# Altium schematic symbol library Microcontrollers.SchLib: 13 symbols
Pins are listed as number, name and electrical type; pins without a type are passive.

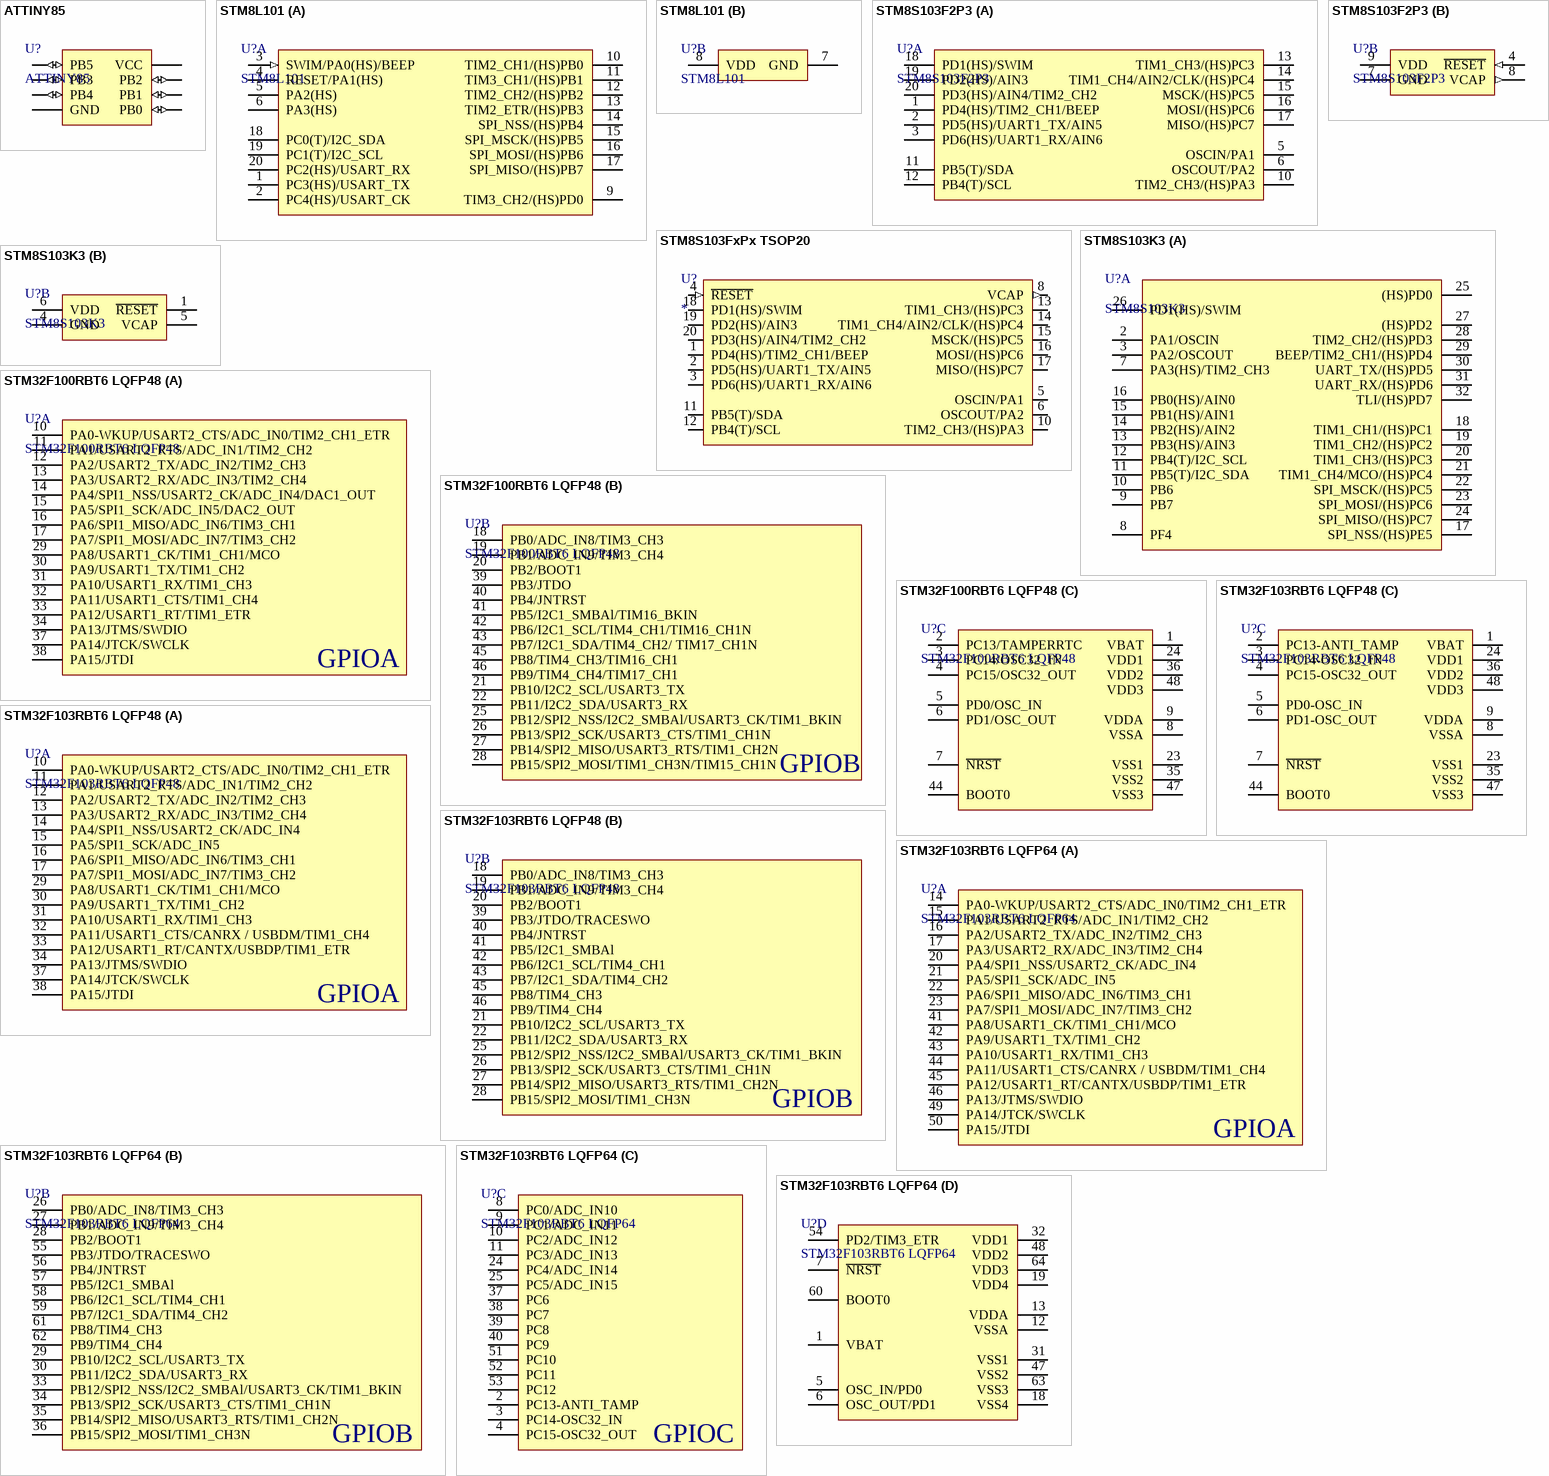
[diagram p0: symbols ATTINY85 to STM32F103RBT6 LQFP64]

## ATTINY85
designator U?
footprint DIP08
pins: 1 PB5 (io), 2 PB3 (io), 3 PB4 (io), 4 GND (power), 5 PB0 (io), 6 PB1 (io), 7 PB2 (io), 8 VCC (power)

## STM8L101
designator U?
footprint TSOP20 (TSOP, 20-Leads, Body 6,50x4,40mm, Pitch 0,65mm, IPC Medium Density)
part A pins: 1 PC3(HS)/USART_TX, 2 PC4(HS)/USART_CK, 3 SWIM/PA0(HS)/BEEP (in), 4 RESET/PA1(HS), 5 PA2(HS), 6 PA3(HS), 9 TIM3_CH2/(HS)PD0, 10 TIM2_CH1/(HS)PB0, 11 TIM3_CH1/(HS)PB1, 12 TIM2_CH2/(HS)PB2, 13 TIM2_ETR/(HS)PB3, 14 SPI_NSS/(HS)PB4, 15 SPI_MSCK/(HS)PB5, 16 SPI_MOSI/(HS)PB6, 17 SPI_MISO/(HS)PB7, 18 PC0(T)/I2C_SDA, 19 PC1(T)/I2C_SCL, 20 PC2(HS)/USART_RX
part B pins: 7 GND (power), 8 VDD (power)

## STM8S103F2P3
designator U?
Supplier 1: Digi-Key; Supplier Part Number 1: 497-11576-ND
footprint TSOP20 (TSOP, 20-Leads, Body 6,50x4,40mm, Pitch 0,65mm, IPC Medium Density)
footprint SOIC-20 (SOIC, 20-Leads, Body 12,80x7,50mm, Pitch 1,27mm, IPC Medium Density)
footprint QFN20N (QFN, 20-Leads, Body 4,00x4,00mm, Pitch 0,50mm, IPC Medium Density)
part A pins: 1 PD4(HS)/TIM2_CH1/BEEP, 2 PD5(HS)/UART1_TX/AIN5, 3 PD6(HS)/UART1_RX/AIN6, 5 OSCIN/PA1, 6 OSCOUT/PA2, 10 TIM2_CH3/(HS)PA3, 11 PB5(T)/SDA (oc), 12 PB4(T)/SCL (oc), 13 TIM1_CH3/(HS)PC3, 14 TIM1_CH4/AIN2/CLK/(HS)PC4, 15 MSCK/(HS)PC5, 16 MOSI/(HS)PC6, 17 MISO/(HS)PC7, 18 PD1(HS)/SWIM, 19 PD2(HS)/AIN3, 20 PD3(HS)/AIN4/TIM2_CH2
part B pins: 4 ~{RESET} (in), 7 GND (power), 8 VCAP (out), 9 VDD (power)

## STM8S103FxPx TSOP20
designator U?
STM8S103FxPx TSOP20
footprint TSOP20 (TSOP, 20-Leads, Body 6,50x4,40mm, Pitch 0,65mm, IPC Medium Density)
footprint SOIC-20 (SOIC, 20-Leads, Body 12,80x7,50mm, Pitch 1,27mm, IPC Medium Density)
footprint QFN20N (QFN, 20-Leads, Body 4,00x4,00mm, Pitch 0,50mm, IPC Medium Density)
pins: 1 PD4(HS)/TIM2_CH1/BEEP, 2 PD5(HS)/UART1_TX/AIN5, 3 PD6(HS)/UART1_RX/AIN6, 4 ~{RESET} (in), 5 OSCIN/PA1, 6 OSCOUT/PA2, 7 GND (power) hidden to GND, 8 VCAP (out), 9 VCC hidden to VCC, 10 TIM2_CH3/(HS)PA3, 11 PB5(T)/SDA (oc), 12 PB4(T)/SCL (oc), 13 TIM1_CH3/(HS)PC3, 14 TIM1_CH4/AIN2/CLK/(HS)PC4, 15 MSCK/(HS)PC5, 16 MOSI/(HS)PC6, 17 MISO/(HS)PC7, 18 PD1(HS)/SWIM, 19 PD2(HS)/AIN3, 20 PD3(HS)/AIN4/TIM2_CH2

## STM8S103K3
designator U?
16 MHz STM8S 8-bit MCU, up to 8 Kbytes Flash, data  EEPROM,10-bit ADC, 3 timers, UART, SPI, I²C
footprint LQFP32 (TQFP, 32-Leads, Body 7,00x7,00mm, Pitch 0,80mm, IPC Medium Density)
footprint UFQFPN32 (QFN, 32-Leads, Body 5,00x5,00mm, Pitch 0,50mm, Thermal Pad 3,50x3,50mm, IPC Medium Density)
part A pins: 2 PA1/OSCIN, 3 PA2/OSCOUT, 7 PA3(HS)/TIM2_CH3, 8 PF4, 9 PB7, 10 PB6, 11 PB5(T)/I2C_SDA, 12 PB4(T)/I2C_SCL, 13 PB3(HS)/AIN3, 14 PB2(HS)/AIN2, 15 PB1(HS)/AIN1, 16 PB0(HS)/AIN0, 17 SPI_NSS/(HS)PE5, 18 TIM1_CH1/(HS)PC1, 19 TIM1_CH2/(HS)PC2, 20 TIM1_CH3/(HS)PC3, 21 TIM1_CH4/MCO/(HS)PC4, 22 SPI_MSCK/(HS)PC5, 23 SPI_MOSI/(HS)PC6, 24 SPI_MISO/(HS)PC7, 25 (HS)PD0, 26 PD1(HS)/SWIM, 27 (HS)PD2, 28 TIM2_CH2/(HS)PD3, 29 BEEP/TIM2_CH1/(HS)PD4, 30 UART_TX/(HS)PD5, 31 UART_RX/(HS)PD6, 32 TLI/(HS)PD7
part B pins: 1 ~{RESET}, 4 GND, 5 VCAP, 6 VDD

## STM32F100RBT6 LQFP48
designator U?
footprint LQFP48
part A pins: 10 PA0-WKUP/USART2_CTS/ADC_IN0/TIM2_CH1_ETR, 11 PA1/USART2_RTS/ADC_IN1/TIM2_CH2, 12 PA2/USART2_TX/ADC_IN2/TIM2_CH3, 13 PA3/USART2_RX/ADC_IN3/TIM2_CH4, 14 PA4/SPI1_NSS/USART2_CK/ADC_IN4/DAC1_OUT, 15 PA5/SPI1_SCK/ADC_IN5/DAC2_OUT, 16 PA6/SPI1_MISO/ADC_IN6/TIM3_CH1, 17 PA7/SPI1_MOSI/ADC_IN7/TIM3_CH2, 29 PA8/USART1_CK/TIM1_CH1/MCO, 30 PA9/USART1_TX/TIM1_CH2, 31 PA10/USART1_RX/TIM1_CH3, 32 PA11/USART1_CTS/TIM1_CH4, 33 PA12/USART1_RT/TIM1_ETR, 34 PA13/JTMS/SWDIO, 37 PA14/JTCK/SWCLK, 38 PA15/JTDI
part B pins: 18 PB0/ADC_IN8/TIM3_CH3, 19 PB1/ADC_IN9/TIM3_CH4, 20 PB2/BOOT1, 21 PB10/I2C2_SCL/USART3_TX, 22 PB11/I2C2_SDA/USART3_RX, 25 PB12/SPI2_NSS/I2C2_SMBAl/USART3_CK/TIM1_BKIN, 26 PB13/SPI2_SCK/USART3_CTS/TIM1_CH1N, 27 PB14/SPI2_MISO/USART3_RTS/TIM1_CH2N, 28 PB15/SPI2_MOSI/TIM1_CH3N/TIM15_CH1N, 39 PB3/JTDO, 40 PB4/JNTRST, 41 PB5/I2C1_SMBAl/TIM16_BKIN, 42 PB6/I2C1_SCL/TIM4_CH1/TIM16_CH1N, 43 PB7/I2C1_SDA/TIM4_CH2/ TIM17_CH1N, 45 PB8/TIM4_CH3/TIM16_CH1, 46 PB9/TIM4_CH4/TIM17_CH1
part C pins: 1 VBAT, 2 PC13/TAMPERRTC, 3 PC14/OSC32_IN, 4 PC15/OSC32_OUT, 5 PD0/OSC_IN, 6 PD1/OSC_OUT, 7 ~{NRST}, 8 VSSA (power), 9 VDDA (power), 23 VSS1 (power), 24 VDD1 (power), 35 VSS2 (power), 36 VDD2 (power), 44 BOOT0, 47 VSS3 (power), 48 VDD3 (power)
part A text: GPIOA
part B text: GPIOB

## STM32F103RBT6 LQFP48
designator U?
footprint LQFP48
part A pins: 10 PA0-WKUP/USART2_CTS/ADC_IN0/TIM2_CH1_ETR, 11 PA1/USART2_RTS/ADC_IN1/TIM2_CH2, 12 PA2/USART2_TX/ADC_IN2/TIM2_CH3, 13 PA3/USART2_RX/ADC_IN3/TIM2_CH4, 14 PA4/SPI1_NSS/USART2_CK/ADC_IN4, 15 PA5/SPI1_SCK/ADC_IN5, 16 PA6/SPI1_MISO/ADC_IN6/TIM3_CH1, 17 PA7/SPI1_MOSI/ADC_IN7/TIM3_CH2, 29 PA8/USART1_CK/TIM1_CH1/MCO, 30 PA9/USART1_TX/TIM1_CH2, 31 PA10/USART1_RX/TIM1_CH3, 32 PA11/USART1_CTS/CANRX / USBDM/TIM1_CH4, 33 PA12/USART1_RT/CANTX/USBDP/TIM1_ETR, 34 PA13/JTMS/SWDIO, 37 PA14/JTCK/SWCLK, 38 PA15/JTDI
part B pins: 18 PB0/ADC_IN8/TIM3_CH3, 19 PB1/ADC_IN9/TIM3_CH4, 20 PB2/BOOT1, 21 PB10/I2C2_SCL/USART3_TX, 22 PB11/I2C2_SDA/USART3_RX, 25 PB12/SPI2_NSS/I2C2_SMBAl/USART3_CK/TIM1_BKIN, 26 PB13/SPI2_SCK/USART3_CTS/TIM1_CH1N, 27 PB14/SPI2_MISO/USART3_RTS/TIM1_CH2N, 28 PB15/SPI2_MOSI/TIM1_CH3N, 39 PB3/JTDO/TRACESWO, 40 PB4/JNTRST, 41 PB5/I2C1_SMBAl, 42 PB6/I2C1_SCL/TIM4_CH1, 43 PB7/I2C1_SDA/TIM4_CH2, 45 PB8/TIM4_CH3, 46 PB9/TIM4_CH4
part C pins: 1 VBAT, 2 PC13-ANTI_TAMP, 3 PC14-OSC32_IN, 4 PC15-OSC32_OUT, 5 PD0-OSC_IN, 6 PD1-OSC_OUT, 7 ~{NRST}, 8 VSSA (power), 9 VDDA (power), 23 VSS1 (power), 24 VDD1 (power), 35 VSS2 (power), 36 VDD2 (power), 44 BOOT0, 47 VSS3 (power), 48 VDD3 (power)
part A text: GPIOA
part B text: GPIOB

## STM32F103RBT6 LQFP64
designator U?
footprint LQFP64 (Thin QFP, 64-Leads, Body 10x10mm, Pitch 0.5mm, IPC Low Density)
part A pins: 14 PA0-WKUP/USART2_CTS/ADC_IN0/TIM2_CH1_ETR, 15 PA1/USART2_RTS/ADC_IN1/TIM2_CH2, 16 PA2/USART2_TX/ADC_IN2/TIM2_CH3, 17 PA3/USART2_RX/ADC_IN3/TIM2_CH4, 20 PA4/SPI1_NSS/USART2_CK/ADC_IN4, 21 PA5/SPI1_SCK/ADC_IN5, 22 PA6/SPI1_MISO/ADC_IN6/TIM3_CH1, 23 PA7/SPI1_MOSI/ADC_IN7/TIM3_CH2, 41 PA8/USART1_CK/TIM1_CH1/MCO, 42 PA9/USART1_TX/TIM1_CH2, 43 PA10/USART1_RX/TIM1_CH3, 44 PA11/USART1_CTS/CANRX / USBDM/TIM1_CH4, 45 PA12/USART1_RT/CANTX/USBDP/TIM1_ETR, 46 PA13/JTMS/SWDIO, 49 PA14/JTCK/SWCLK, 50 PA15/JTDI
part B pins: 26 PB0/ADC_IN8/TIM3_CH3, 27 PB1/ADC_IN9/TIM3_CH4, 28 PB2/BOOT1, 29 PB10/I2C2_SCL/USART3_TX, 30 PB11/I2C2_SDA/USART3_RX, 33 PB12/SPI2_NSS/I2C2_SMBAl/USART3_CK/TIM1_BKIN, 34 PB13/SPI2_SCK/USART3_CTS/TIM1_CH1N, 35 PB14/SPI2_MISO/USART3_RTS/TIM1_CH2N, 36 PB15/SPI2_MOSI/TIM1_CH3N, 55 PB3/JTDO/TRACESWO, 56 PB4/JNTRST, 57 PB5/I2C1_SMBAl, 58 PB6/I2C1_SCL/TIM4_CH1, 59 PB7/I2C1_SDA/TIM4_CH2, 61 PB8/TIM4_CH3, 62 PB9/TIM4_CH4
part C pins: 2 PC13-ANTI_TAMP, 3 PC14-OSC32_IN, 4 PC15-OSC32_OUT, 8 PC0/ADC_IN10, 9 PC1/ADC_IN11, 10 PC2/ADC_IN12, 11 PC3/ADC_IN13, 24 PC4/ADC_IN14, 25 PC5/ADC_IN15, 37 PC6, 38 PC7, 39 PC8, 40 PC9, 51 PC10, 52 PC11, 53 PC12
part D pins: 1 VBAT, 5 OSC_IN/PD0, 6 OSC_OUT/PD1, 7 ~{NRST}, 12 VSSA (power), 13 VDDA (power), 18 VSS4 (power), 19 VDD4 (power), 31 VSS1 (power), 32 VDD1 (power), 47 VSS2 (power), 48 VDD2 (power), 54 PD2/TIM3_ETR, 60 BOOT0, 63 VSS3 (power), 64 VDD3 (power)
part A text: GPIOA
part B text: GPIOB
part C text: GPIOC

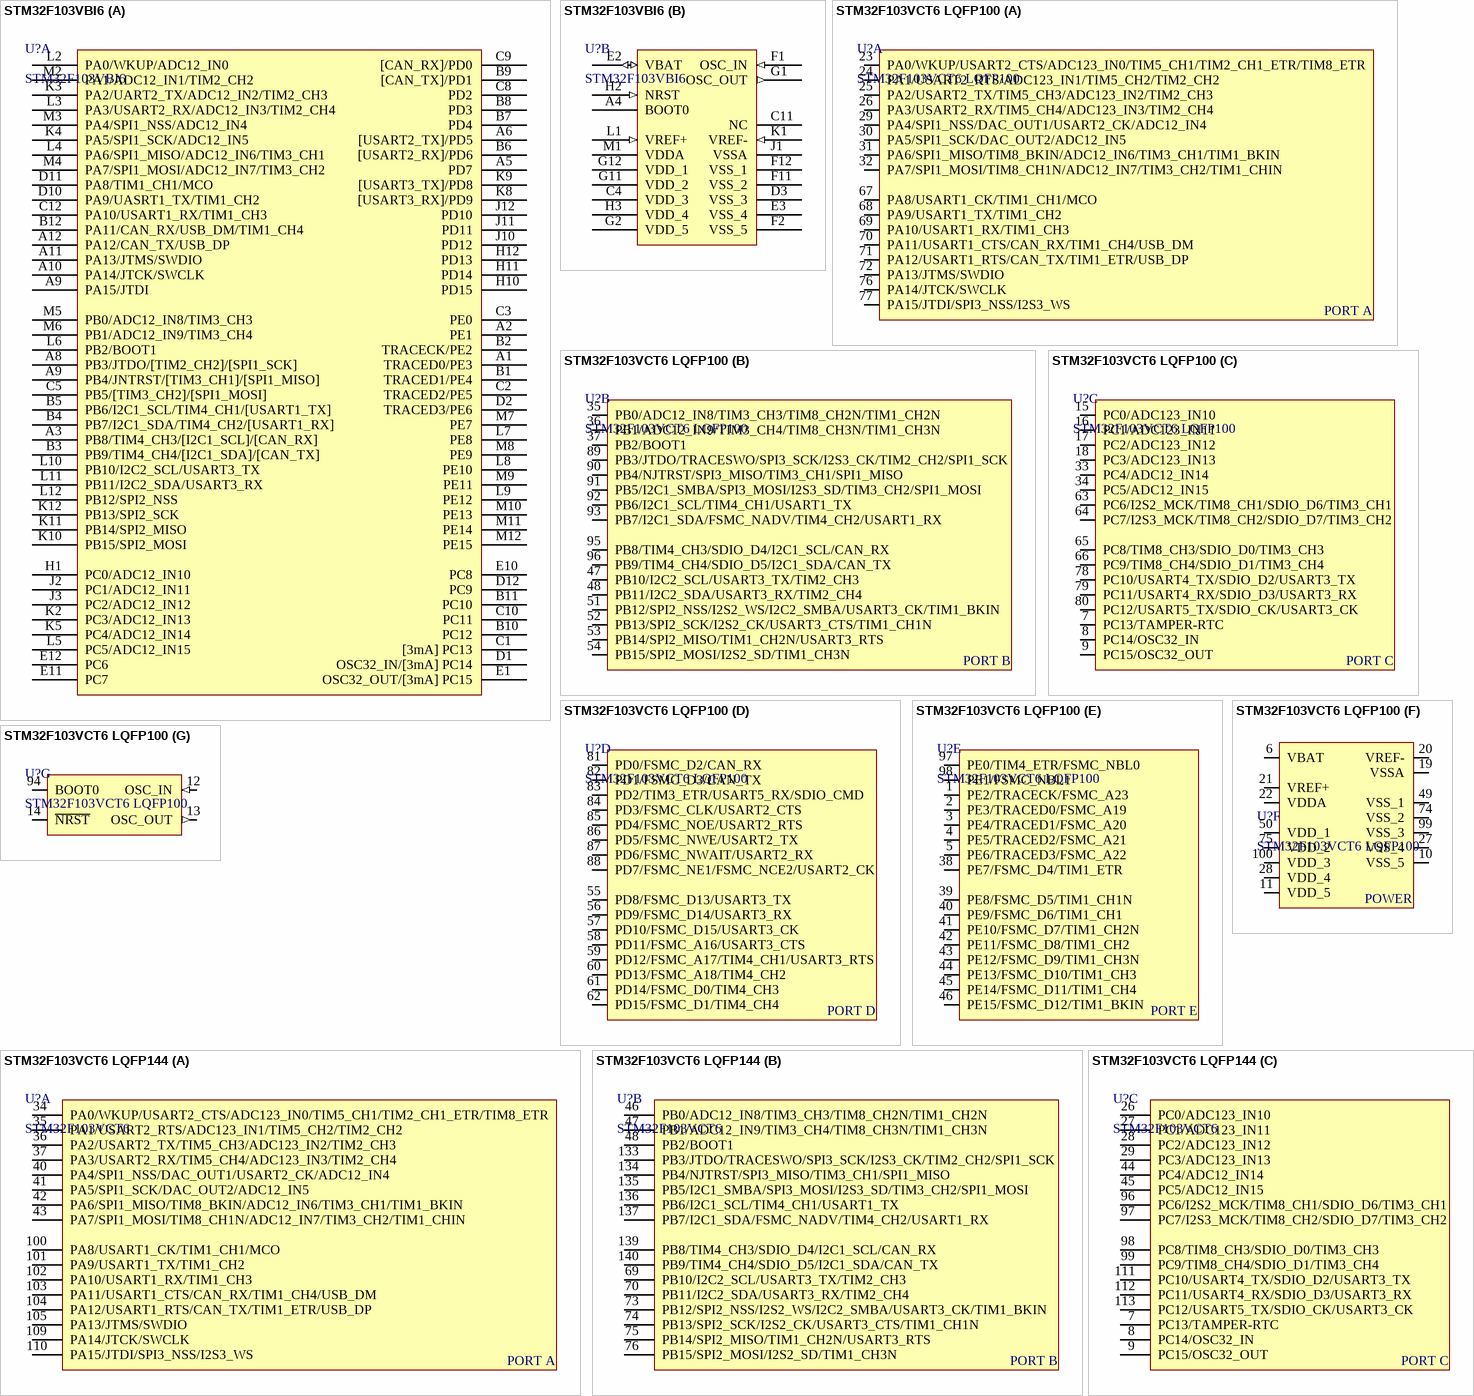
[diagram p1: symbols STM32F103VBI6 to STM32F103VCT6 LQFP144]

## STM32F103VBI6
designator U?
UFBG100; Max Frequency: 72MHz; Flash size: 64 ~ 128kB; Ram: 20kB; SPI: 2; USART: 3; USB: 1; GPIO: 80; Vdd: 2.0 ~ 3.3V; Package: UFBGA100; I2C: 2; CAN: 1
footprint UFBG100 0.20mm (BGA, 100-Leads, Body 7,00x7,00mmx0,53mm, Pitch 0,50mm)
footprint UFBG100 0.25mm (BGA, 100-Leads, Body 7,00x7,00mmx0,53mm, Pitch 0,50mm)
part A pins: A1 TRACED0/PE3, A2 PE1, A3 PB8/TIM4_CH3/[I2C1_SCL]/[CAN_RX], A5 PD7 (power), A6 [USART2_TX]/PD5, A8 PB3/JTDO/[TIM2_CH2]/[SPI1_SCK], A9 PA15/JTDI, A9 PB4/JNTRST/[TIM3_CH1]/[SPI1_MISO], A10 PA14/JTCK/SWCLK, A11 PA13/JTMS/SWDIO, A12 PA12/CAN_TX/USB_DP, B1 TRACED1/PE4, B2 TRACECK/PE2, B3 PB9/TIM4_CH4/[I2C1_SDA]/[CAN_TX], B4 PB7/I2C1_SDA/TIM4_CH2/[USART1_RX], B5 PB6/I2C1_SCL/TIM4_CH1/[USART1_TX], B6 [USART2_RX]/PD6, B7 PD4, B8 PD3, B9 [CAN_TX]/PD1, B10 PC12, B11 PC10, B12 PA11/CAN_RX/USB_DM/TIM1_CH4, C1 [3mA] PC13, C2 TRACED2/PE5, C3 PE0, C5 PB5/[TIM3_CH2]/[SPI1_MOSI], C8 PD2, C9 [CAN_RX]/PD0, C10 PC11, C12 PA10/USART1_RX/TIM1_CH3, D1 OSC32_IN/[3mA] PC14, D2 TRACED3/PE6, D10 PA9/UASRT1_TX/TIM1_CH2, D11 PA8/TIM1_CH1/MCO, D12 PC9, E1 OSC32_OUT/[3mA] PC15, E10 PC8, E11 PC7, E12 PC6, H1 PC0/ADC12_IN10, H10 PD15, H11 PD14, H12 PD13, J2 PC1/ADC12_IN11, J3 PC2/ADC12_IN12, J10 PD12, J11 PD11, J12 PD10, K2 PC3/ADC12_IN13, K3 PA2/UART2_TX/ADC12_IN2/TIM2_CH3, K4 PA5/SPI1_SCK/ADC12_IN5, K5 PC4/ADC12_IN14, K8 [USART3_RX]/PD9, K9 [USART3_TX]/PD8, K10 PB15/SPI2_MOSI, K11 PB14/SPI2_MISO, K12 PB13/SPI2_SCK, L2 PA0/WKUP/ADC12_IN0, L3 PA3/USART2_RX/ADC12_IN3/TIM2_CH4, L4 PA6/SPI1_MISO/ADC12_IN6/TIM3_CH1, L5 PC5/ADC12_IN15, L6 PB2/BOOT1, L7 PE8, L8 PE10, L9 PE12, L10 PB10/I2C2_SCL/USART3_TX, L11 PB11/I2C2_SDA/USART3_RX, L12 PB12/SPI2_NSS, M2 PA1/ADC12_IN1/TIM2_CH2, M3 PA4/SPI1_NSS/ADC12_IN4, M4 PA7/SPI1_MOSI/ADC12_IN7/TIM3_CH2, M5 PB0/ADC12_IN8/TIM3_CH3, M6 PB1/ADC12_IN9/TIM3_CH4, M7 PE7, M8 PE9, M9 PE11, M10 PE13, M11 PE14, M12 PE15
part B pins: A4 BOOT0, C4 VDD_3 (power), C11 NC, D3 VSS_3 (power), E2 VBAT (io), E3 VSS_4 (power), F1 OSC_IN (in), F2 VSS_5 (power), F11 VSS_2 (power), F12 VSS_1 (power), G1 OSC_OUT (out), G2 VDD_5 (power), G11 VDD_2 (power), G12 VDD_1 (power), H2 NRST (in), H3 VDD_4 (power), J1 VSSA (power), K1 VREF- (in), L1 VREF+ (in), M1 VDDA (power)

## STM32F103VCT6 LQFP100
designator U?
STM32F103VCT6; Max frequency: 72MHz; Digi-Key Part Number: 497-9034-ND
footprint LQFP100
part A pins: 23 PA0/WKUP/USART2_CTS/ADC123_IN0/TIM5_CH1/TIM2_CH1_ETR/TIM8_ETR "PA0", 24 PA1/USART2_RTS/ADC123_IN1/TIM5_CH2/TIM2_CH2 "PA1", 25 PA2/USART2_TX/TIM5_CH3/ADC123_IN2/TIM2_CH3, 26 PA3/USART2_RX/TIM5_CH4/ADC123_IN3/TIM2_CH4, 29 PA4/SPI1_NSS/DAC_OUT1/USART2_CK/ADC12_IN4, 30 PA5/SPI1_SCK/DAC_OUT2/ADC12_IN5, 31 PA6/SPI1_MISO/TIM8_BKIN/ADC12_IN6/TIM3_CH1/TIM1_BKIN, 32 PA7/SPI1_MOSI/TIM8_CH1N/ADC12_IN7/TIM3_CH2/TIM1_CHIN, 67 PA8/USART1_CK/TIM1_CH1/MCO, 68 PA9/USART1_TX/TIM1_CH2, 69 PA10/USART1_RX/TIM1_CH3, 70 PA11/USART1_CTS/CAN_RX/TIM1_CH4/USB_DM, 71 PA12/USART1_RTS/CAN_TX/TIM1_ETR/USB_DP, 72 PA13/JTMS/SWDIO, 76 PA14/JTCK/SWCLK, 77 PA15/JTDI/SPI3_NSS/I2S3_WS
part B pins: 35 PB0/ADC12_IN8/TIM3_CH3/TIM8_CH2N/TIM1_CH2N, 36 PB1/ADC12_IN9/TIM3_CH4/TIM8_CH3N/TIM1_CH3N, 37 PB2/BOOT1, 47 PB10/I2C2_SCL/USART3_TX/TIM2_CH3, 48 PB11/I2C2_SDA/USART3_RX/TIM2_CH4, 51 PB12/SPI2_NSS/I2S2_WS/I2C2_SMBA/USART3_CK/TIM1_BKIN, 52 PB13/SPI2_SCK/I2S2_CK/USART3_CTS/TIM1_CH1N, 53 PB14/SPI2_MISO/TIM1_CH2N/USART3_RTS, 54 PB15/SPI2_MOSI/I2S2_SD/TIM1_CH3N, 89 PB3/JTDO/TRACESWO/SPI3_SCK/I2S3_CK/TIM2_CH2/SPI1_SCK, 90 PB4/NJTRST/SPI3_MISO/TIM3_CH1/SPI1_MISO, 91 PB5/I2C1_SMBA/SPI3_MOSI/I2S3_SD/TIM3_CH2/SPI1_MOSI, 92 PB6/I2C1_SCL/TIM4_CH1/USART1_TX, 93 PB7/I2C1_SDA/FSMC_NADV/TIM4_CH2/USART1_RX, 95 PB8/TIM4_CH3/SDIO_D4/I2C1_SCL/CAN_RX, 96 PB9/TIM4_CH4/SDIO_D5/I2C1_SDA/CAN_TX
part C pins: 7 PC13/TAMPER-RTC, 8 PC14/OSC32_IN, 9 PC15/OSC32_OUT, 15 PC0/ADC123_IN10 "PC0", 16 PC1/ADC123_IN11 "PC1", 17 PC2/ADC123_IN12 "PC2", 18 PC3/ADC123_IN13 "PC3", 33 PC4/ADC12_IN14 "PC4", 34 PC5/ADC12_IN15 "PC5", 63 PC6/I2S2_MCK/TIM8_CH1/SDIO_D6/TIM3_CH1 "PC6", 64 PC7/I2S3_MCK/TIM8_CH2/SDIO_D7/TIM3_CH2 "PC7", 65 PC8/TIM8_CH3/SDIO_D0/TIM3_CH3, 66 PC9/TIM8_CH4/SDIO_D1/TIM3_CH4, 78 PC10/USART4_TX/SDIO_D2/USART3_TX, 79 PC11/USART4_RX/SDIO_D3/USART3_RX, 80 PC12/USART5_TX/SDIO_CK/USART3_CK
part D pins: 55 PD8/FSMC_D13/USART3_TX, 56 PD9/FSMC_D14/USART3_RX, 57 PD10/FSMC_D15/USART3_CK, 58 PD11/FSMC_A16/USART3_CTS, 59 PD12/FSMC_A17/TIM4_CH1/USART3_RTS, 60 PD13/FSMC_A18/TIM4_CH2, 61 PD14/FSMC_D0/TIM4_CH3, 62 PD15/FSMC_D1/TIM4_CH4, 81 PD0/FSMC_D2/CAN_RX, 82 PD1/FSMC_D3/CAN_TX, 83 PD2/TIM3_ETR/USART5_RX/SDIO_CMD, 84 PD3/FSMC_CLK/USART2_CTS, 85 PD4/FSMC_NOE/USART2_RTS, 86 PD5/FSMC_NWE/USART2_TX, 87 PD6/FSMC_NWAIT/USART2_RX, 88 PD7/FSMC_NE1/FSMC_NCE2/USART2_CK
part E pins: 1 PE2/TRACECK/FSMC_A23, 2 PE3/TRACED0/FSMC_A19, 3 PE4/TRACED1/FSMC_A20, 4 PE5/TRACED2/FSMC_A21, 5 PE6/TRACED3/FSMC_A22, 38 PE7/FSMC_D4/TIM1_ETR, 39 PE8/FSMC_D5/TIM1_CH1N, 40 PE9/FSMC_D6/TIM1_CH1, 41 PE10/FSMC_D7/TIM1_CH2N, 42 PE11/FSMC_D8/TIM1_CH2, 43 PE12/FSMC_D9/TIM1_CH3N, 44 PE13/FSMC_D10/TIM1_CH3, 45 PE14/FSMC_D11/TIM1_CH4, 46 PE15/FSMC_D12/TIM1_BKIN, 97 PE0/TIM4_ETR/FSMC_NBL0, 98 PE1/FSMC_NBL1
part F pins: 6 VBAT (power), 10 VSS_5 (power), 11 VDD_5 (power), 19 VSSA (power), 20 VREF- (power), 21 VREF+ (power), 22 VDDA (power), 27 VSS_4 (power), 28 VDD_4 (power), 49 VSS_1 (power), 50 VDD_1 (power), 74 VSS_2 (power), 75 VDD_2 (power), 99 VSS_3 (power), 100 VDD_3 (power)
part G pins: 12 OSC_IN (in), 13 OSC_OUT (out), 14 ~{NRST}, 94 BOOT0
part A text: PORT A
part B text: PORT B
part C text: PORT C
part D text: PORT D
part E text: PORT E
part F text: POWER

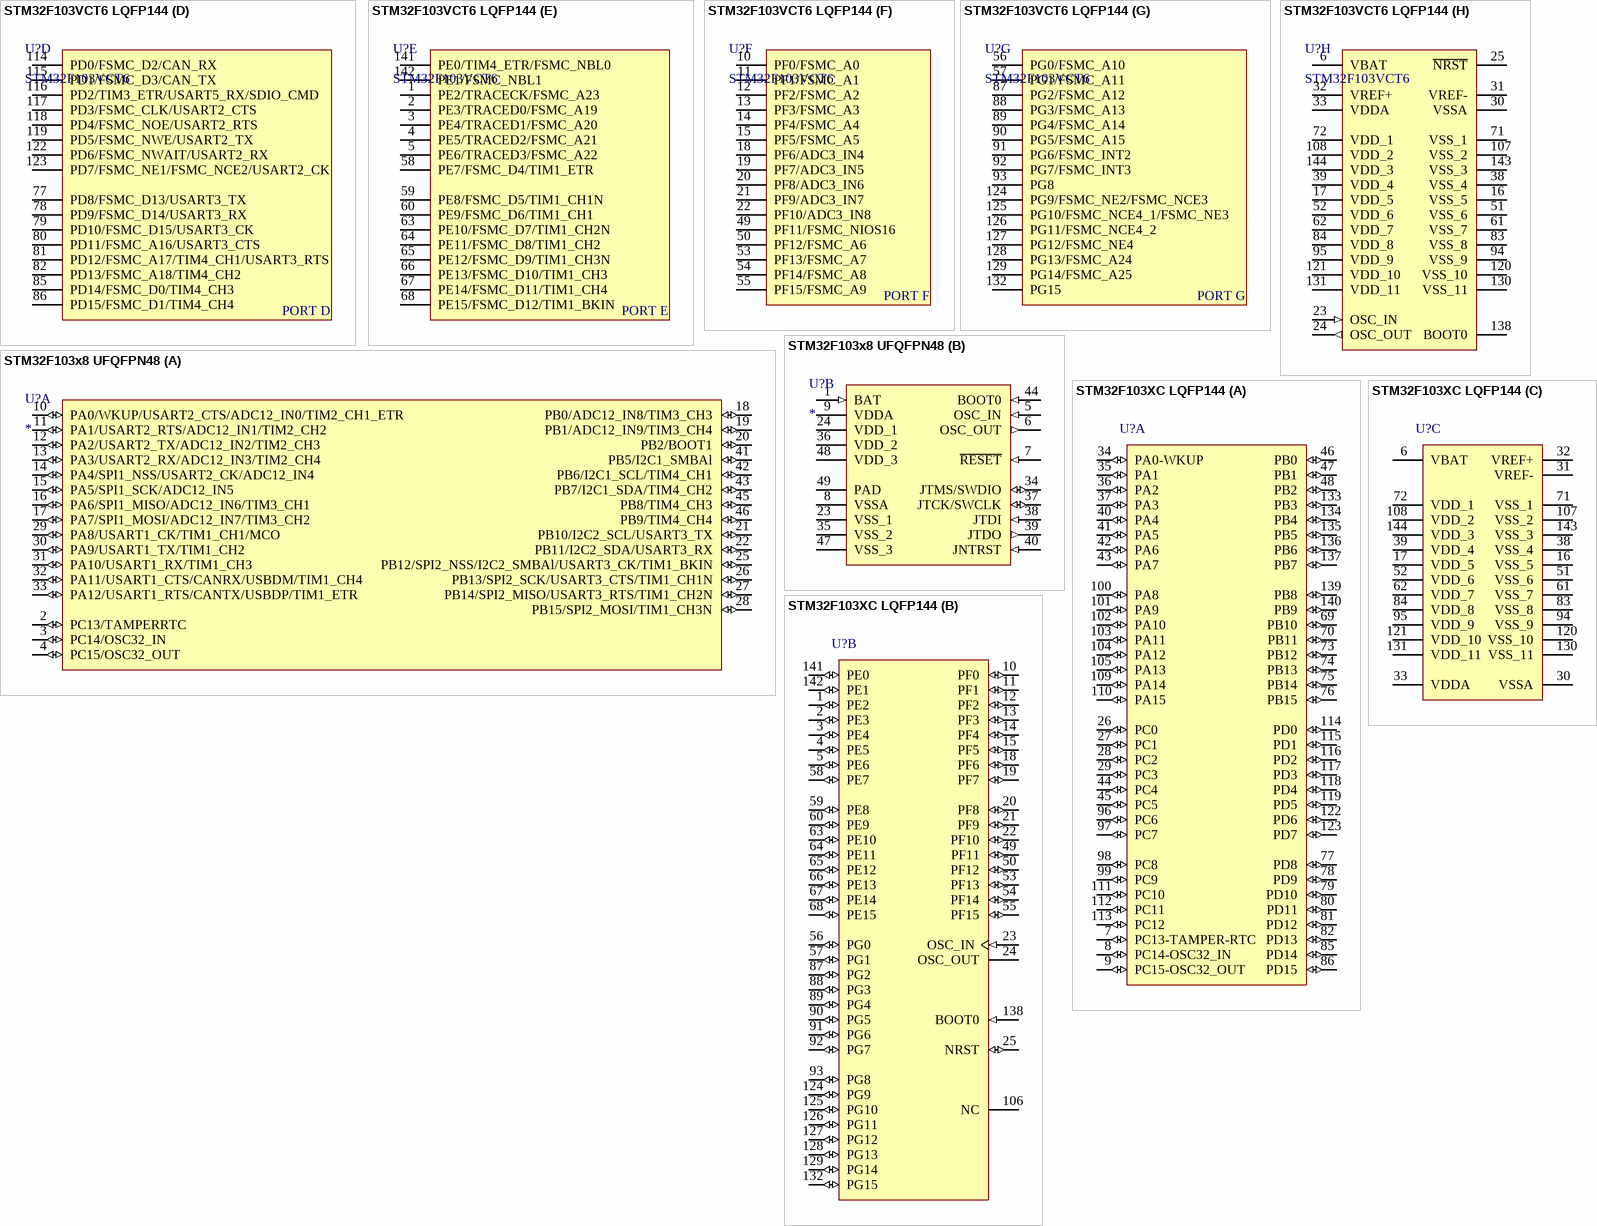
[diagram p2: symbols STM32F103VCT6 LQFP144 to STM32F103XC LQFP144]

## STM32F103VCT6 LQFP144
designator U?, comment STM32F103VCT6
footprint LQFP144 (LQFP, 144-Leads, Body 20,00x20,00mm, Pitch 0,50mm, IPC Low Density)
part A pins: 34 PA0/WKUP/USART2_CTS/ADC123_IN0/TIM5_CH1/TIM2_CH1_ETR/TIM8_ETR "PA0", 35 PA1/USART2_RTS/ADC123_IN1/TIM5_CH2/TIM2_CH2 "PA1", 36 PA2/USART2_TX/TIM5_CH3/ADC123_IN2/TIM2_CH3, 37 PA3/USART2_RX/TIM5_CH4/ADC123_IN3/TIM2_CH4, 40 PA4/SPI1_NSS/DAC_OUT1/USART2_CK/ADC12_IN4, 41 PA5/SPI1_SCK/DAC_OUT2/ADC12_IN5, 42 PA6/SPI1_MISO/TIM8_BKIN/ADC12_IN6/TIM3_CH1/TIM1_BKIN, 43 PA7/SPI1_MOSI/TIM8_CH1N/ADC12_IN7/TIM3_CH2/TIM1_CHIN, 100 PA8/USART1_CK/TIM1_CH1/MCO, 101 PA9/USART1_TX/TIM1_CH2, 102 PA10/USART1_RX/TIM1_CH3, 103 PA11/USART1_CTS/CAN_RX/TIM1_CH4/USB_DM, 104 PA12/USART1_RTS/CAN_TX/TIM1_ETR/USB_DP, 105 PA13/JTMS/SWDIO, 109 PA14/JTCK/SWCLK, 110 PA15/JTDI/SPI3_NSS/I2S3_WS
part B pins: 46 PB0/ADC12_IN8/TIM3_CH3/TIM8_CH2N/TIM1_CH2N, 47 PB1/ADC12_IN9/TIM3_CH4/TIM8_CH3N/TIM1_CH3N, 48 PB2/BOOT1, 69 PB10/I2C2_SCL/USART3_TX/TIM2_CH3, 70 PB11/I2C2_SDA/USART3_RX/TIM2_CH4, 73 PB12/SPI2_NSS/I2S2_WS/I2C2_SMBA/USART3_CK/TIM1_BKIN, 74 PB13/SPI2_SCK/I2S2_CK/USART3_CTS/TIM1_CH1N, 75 PB14/SPI2_MISO/TIM1_CH2N/USART3_RTS, 76 PB15/SPI2_MOSI/I2S2_SD/TIM1_CH3N, 133 PB3/JTDO/TRACESWO/SPI3_SCK/I2S3_CK/TIM2_CH2/SPI1_SCK, 134 PB4/NJTRST/SPI3_MISO/TIM3_CH1/SPI1_MISO, 135 PB5/I2C1_SMBA/SPI3_MOSI/I2S3_SD/TIM3_CH2/SPI1_MOSI, 136 PB6/I2C1_SCL/TIM4_CH1/USART1_TX, 137 PB7/I2C1_SDA/FSMC_NADV/TIM4_CH2/USART1_RX, 139 PB8/TIM4_CH3/SDIO_D4/I2C1_SCL/CAN_RX, 140 PB9/TIM4_CH4/SDIO_D5/I2C1_SDA/CAN_TX
part C pins: 7 PC13/TAMPER-RTC, 8 PC14/OSC32_IN, 9 PC15/OSC32_OUT, 26 PC0/ADC123_IN10 "PC0", 27 PC1/ADC123_IN11 "PC1", 28 PC2/ADC123_IN12 "PC2", 29 PC3/ADC123_IN13 "PC3", 44 PC4/ADC12_IN14 "PC4", 45 PC5/ADC12_IN15 "PC5", 96 PC6/I2S2_MCK/TIM8_CH1/SDIO_D6/TIM3_CH1 "PC6", 97 PC7/I2S3_MCK/TIM8_CH2/SDIO_D7/TIM3_CH2 "PC7", 98 PC8/TIM8_CH3/SDIO_D0/TIM3_CH3, 99 PC9/TIM8_CH4/SDIO_D1/TIM3_CH4, 111 PC10/USART4_TX/SDIO_D2/USART3_TX, 112 PC11/USART4_RX/SDIO_D3/USART3_RX, 113 PC12/USART5_TX/SDIO_CK/USART3_CK
part D pins: 77 PD8/FSMC_D13/USART3_TX, 78 PD9/FSMC_D14/USART3_RX, 79 PD10/FSMC_D15/USART3_CK, 80 PD11/FSMC_A16/USART3_CTS, 81 PD12/FSMC_A17/TIM4_CH1/USART3_RTS, 82 PD13/FSMC_A18/TIM4_CH2, 85 PD14/FSMC_D0/TIM4_CH3, 86 PD15/FSMC_D1/TIM4_CH4, 114 PD0/FSMC_D2/CAN_RX, 115 PD1/FSMC_D3/CAN_TX, 116 PD2/TIM3_ETR/USART5_RX/SDIO_CMD, 117 PD3/FSMC_CLK/USART2_CTS, 118 PD4/FSMC_NOE/USART2_RTS, 119 PD5/FSMC_NWE/USART2_TX, 122 PD6/FSMC_NWAIT/USART2_RX, 123 PD7/FSMC_NE1/FSMC_NCE2/USART2_CK
part E pins: 1 PE2/TRACECK/FSMC_A23, 2 PE3/TRACED0/FSMC_A19, 3 PE4/TRACED1/FSMC_A20, 4 PE5/TRACED2/FSMC_A21, 5 PE6/TRACED3/FSMC_A22, 58 PE7/FSMC_D4/TIM1_ETR, 59 PE8/FSMC_D5/TIM1_CH1N, 60 PE9/FSMC_D6/TIM1_CH1, 63 PE10/FSMC_D7/TIM1_CH2N, 64 PE11/FSMC_D8/TIM1_CH2, 65 PE12/FSMC_D9/TIM1_CH3N, 66 PE13/FSMC_D10/TIM1_CH3, 67 PE14/FSMC_D11/TIM1_CH4, 68 PE15/FSMC_D12/TIM1_BKIN, 141 PE0/TIM4_ETR/FSMC_NBL0, 142 PE1/FSMC_NBL1
part F pins: 10 PF0/FSMC_A0, 11 PF1/FSMC_A1, 12 PF2/FSMC_A2, 13 PF3/FSMC_A3, 14 PF4/FSMC_A4, 15 PF5/FSMC_A5, 18 PF6/ADC3_IN4, 19 PF7/ADC3_IN5, 20 PF8/ADC3_IN6, 21 PF9/ADC3_IN7, 22 PF10/ADC3_IN8, 49 PF11/FSMC_NIOS16, 50 PF12/FSMC_A6, 53 PF13/FSMC_A7, 54 PF14/FSMC_A8, 55 PF15/FSMC_A9
part G pins: 56 PG0/FSMC_A10, 57 PG1/FSMC_A11, 87 PG2/FSMC_A12, 88 PG3/FSMC_A13, 89 PG4/FSMC_A14, 90 PG5/FSMC_A15, 91 PG6/FSMC_INT2, 92 PG7/FSMC_INT3, 93 PG8, 124 PG9/FSMC_NE2/FSMC_NCE3, 125 PG10/FSMC_NCE4_1/FSMC_NE3, 126 PG11/FSMC_NCE4_2, 127 PG12/FSMC_NE4, 128 PG13/FSMC_A24, 129 PG14/FSMC_A25, 132 PG15
part H pins: 6 VBAT (power), 16 VSS_5 (power), 17 VDD_5 (power), 23 OSC_IN (in), 24 OSC_OUT (out), 25 ~{NRST}, 30 VSSA (power), 31 VREF- (power), 32 VREF+ (power), 33 VDDA (power), 38 VSS_4 (power), 39 VDD_4 (power), 51 VSS_6 (power), 52 VDD_6 (power), 61 VSS_7 (power), 62 VDD_7 (power), 71 VSS_1 (power), 72 VDD_1 (power), 83 VSS_8 (power), 84 VDD_8 (power), 94 VSS_9 (power), 95 VDD_9 (power), 107 VSS_2 (power), 108 VDD_2 (power), 120 VSS_10 (power), 121 VDD_10 (power), 130 VSS_11 (power), 131 VDD_11 (power), 138 BOOT0, 143 VSS_3 (power), 144 VDD_3 (power)
part A text: PORT A
part B text: PORT B
part C text: PORT C
part D text: PORT D
part E text: PORT E
part F text: PORT F
part G text: PORT G

## STM32F103x8 UFQFPN48
designator U?
STM32F103x8
footprint UFQFPN48 7 x 7 mm, 0.5 mm pitch (QFN, 48-Leads, Body 7,00x7,00mm, Pitch 0,50mm, Thermal Pad 5,50x5,50mm, IPC Medium Density)
part A pins: 2 PC13/TAMPERRTC (io), 3 PC14/OSC32_IN (io), 4 PC15/OSC32_OUT (io), 10 PA0/WKUP/USART2_CTS/ADC12_IN0/TIM2_CH1_ETR (io), 11 PA1/USART2_RTS/ADC12_IN1/TIM2_CH2 (io), 12 PA2/USART2_TX/ADC12_IN2/TIM2_CH3 (io), 13 PA3/USART2_RX/ADC12_IN3/TIM2_CH4 (io), 14 PA4/SPI1_NSS/USART2_CK/ADC12_IN4 (io), 15 PA5/SPI1_SCK/ADC12_IN5 (io), 16 PA6/SPI1_MISO/ADC12_IN6/TIM3_CH1 (io), 17 PA7/SPI1_MOSI/ADC12_IN7/TIM3_CH2 (io), 18 PB0/ADC12_IN8/TIM3_CH3 (io), 19 PB1/ADC12_IN9/TIM3_CH4 (io), 20 PB2/BOOT1 (io), 21 PB10/I2C2_SCL/USART3_TX (io), 22 PB11/I2C2_SDA/USART3_RX (io), 25 PB12/SPI2_NSS/I2C2_SMBAl/USART3_CK/TIM1_BKIN (io), 26 PB13/SPI2_SCK/USART3_CTS/TIM1_CH1N (io), 27 PB14/SPI2_MISO/USART3_RTS/TIM1_CH2N (io), 28 PB15/SPI2_MOSI/TIM1_CH3N (io), 29 PA8/USART1_CK/TIM1_CH1/MCO (io), 30 PA9/USART1_TX/TIM1_CH2 (io), 31 PA10/USART1_RX/TIM1_CH3 (io), 32 PA11/USART1_CTS/CANRX/USBDM/TIM1_CH4 (io), 33 PA12/USART1_RTS/CANTX/USBDP/TIM1_ETR (io), 41 PB5/I2C1_SMBAl (io), 42 PB6/I2C1_SCL/TIM4_CH1 (io), 43 PB7/I2C1_SDA/TIM4_CH2 (io), 45 PB8/TIM4_CH3 (io), 46 PB9/TIM4_CH4 (io)
part B pins: 1 BAT (in), 5 OSC_IN (in), 6 OSC_OUT (out), 7 ~{RESET} (in), 8 VSSA (power), 9 VDDA (power), 23 VSS_1 (power), 24 VDD_1 (power), 34 JTMS/SWDIO (io), 35 VSS_2 (power), 36 VDD_2 (power), 37 JTCK/SWCLK (io), 38 JTDI (in), 39 JTDO (out), 40 JNTRST (in), 44 BOOT0 (in), 47 VSS_3 (power), 48 VDD_3 (power), 49 PAD (power)

## STM32F103XC LQFP144
designator U?
footprint LQFP144 (LQFP, 144-Leads, Body 20,00x20,00mm, Pitch 0,50mm, IPC Low Density)
part A pins: 7 PC13-TAMPER-RTC (io) "PC13-TAMPER-RTC/PC13/TAMPER-RTC", 8 PC14-OSC32_IN (io) "PC14-OSC32_IN/PC14/OSC32_IN", 9 PC15-OSC32_OUT (io) "PC15-OSC32_OUT/PC15/OSC32_OUT", 26 PC0 (io) "PC0/ADC123_IN10", 27 PC1 (io) "PC1/ADC123_IN11", 28 PC2 (io) "PC2/ADC123_IN12", 29 PC3 (io) "PC3/ADC123_IN13", 34 PA0-WKUP (io) "PA0-WKUP/PA0/WKUP/USART2_CTS/ADC123_IN0/TIM2_CH1_ETR/TIM5_CH1/TIM8_ETR", 35 PA1 (io) "PA1/USART2_RTS/ADC123_IN1/TIM5_CH2/TIM2_CH2", 36 PA2 (io) "PA2/USART2_TX/TIM5_CH3/ADC123_IN2/TIM2_CH3", 37 PA3 (io) "PA3/USART2_RX/TIM5_CH4/ADC123_IN3/TIM2_CH4", 40 PA4 (io) "PA4/SPI1_NSS/USART2_CK/DAC_OUT1/ADC12_IN4", 41 PA5 (io) "PA5/SPI1_SCK/DAC_OUT2/ADC12_IN5", 42 PA6 (io) "PA6/SPI1_MISO/TIM8_BKIN/ADC12_IN6/TIM3_CH1/TIM1_BKIN", 43 PA7 (io) "PA7/SPI1_MOSI/TIM8_CH1N/ADC12_IN7/TIM3_CH2/TIM1_CH1N", 44 PC4 (io) "PC4/ADC12_IN14", 45 PC5 (io) "PC5/ADC12_IN15", 46 PB0 (io) "PB0/ADC12_IN8/TIM3_CH3/TIM8_CH2N/TIM1_CH2N", 47 PB1 (io) "PB1/ADC12_IN9/TIM3_CH4/TIM8_CH3N/TIM1_CH3N", 48 PB2 (io) "PB2/BOOT1", 69 PB10 (io) "PB10/I2C2_SCL/USART3_TX/TIM2_CH3", 70 PB11 (io) "PB11/I2C2_SDA/USART3_RX/TIM2_CH4", 73 PB12 (io) "PB12/SPI2_NSS/I2S2_WS/I2C2_SMBA/USART3_CK/TIM1_BKIN", 74 PB13 (io) "PB13/SPI2_SCK/I2S2_CK/USART3_CTS/TIM1_CH1N", 75 PB14 (io) "PB14/SPI2_MISO/TIM1_CH2N/USART3_RTS", 76 PB15 (io) "PB15/SPI2_MOSI/I2S2_SD/TIM1_CH3N", 77 PD8 (io) "PD8/FSMC_D13/USART3_TX", 78 PD9 (io) "PD9/FSMC_D14/USART3_RX", 79 PD10 (io) "PD10/FSMC_D15/USART3_CK", 80 PD11 (io) "PD11/FSMC_A16/USART3_CTS", 81 PD12 (io) "PD12/FSMC_A17/TIM4_CH1/USART3_RTS", 82 PD13 (io) "PD13/FSMC_A18/TIM4_CH2", 85 PD14 (io) "PD14/FSMC_D0/TIM4_CH3", 86 PD15 (io) "PD15/FSMC_D1/TIM4_CH4", 96 PC6 (io) "PC6/I2S2_MCK/TIM8_CH1/SDIO_D6/TIM3_CH1", 97 PC7 (io) "PC7/I2S3_MCK/TIM8_CH2/SDIO_D7/TIM3_CH2", 98 PC8 (io) "PC8/TIM8_CH3/SDIO_D0/TIM3_CH3", 99 PC9 (io) "PC9/TIM8_CH4/SDIO_D1/TIM3_CH4", 100 PA8 (io) "PA8/USART1_CK/TIM1_CH1/MCO", 101 PA9 (io) "PA9/USART1_TX/TIM1_CH2", 102 PA10 (io) "PA10/USART1_RX/TIM1_CH3", 103 PA11 (io) "PA11/USART1_CTS/USBDM/CAN_RX/TIM1_CH4", 104 PA12 (io) "PA12/USART1_RTS/USBDP/CAN_TX/TIM1_ETR", 105 PA13 (io) "PA13/JTMS-SWDIO", 109 PA14 (io) "PA14/JTCK-SWCLK", 110 PA15 (io) "PA15/JTDI/SPI3_NSS/I2S3_WS/TIM2_CH1_ETR/SPI1_NSS", 111 PC10 (io) "PC10/UART4_TX/SDIO_D2/USART3_TX", 112 PC11 (io) "PC11/UART4_RX/SDIO_D3/USART3_RX", 113 PC12 (io) "PC12/UART5_TX/SDIO_CK/USART3_CK", 114 PD0 (io) "PD0/OSC_IN/FSMC_D2/CAN_RX", 115 PD1 (io) "PD1/OSC_OUT/FSMC_D3/CAN_TX", 116 PD2 (io) "PD2/TIM3_ETR/UART5_RX/SDIO_CMD", 117 PD3 (io) "PD3/FSMC_CLK/USART2_CTS", 118 PD4 (io) "PD4/FSMC_NOE/USART2_RTS", 119 PD5 (io) "PD5/FSMC_NWE/USART2_TX", 122 PD6 (io) "PD6/FSMC_NWAIT/USART2_RX", 123 PD7 (io) "PD7/FSMC_NE1/FSMC_NCE2/USART2_CK", 133 PB3 (io) "PB3/JTDO/SPI3_SCK/I2S3_CK/TRACESWO/TIM2_CH2/SPI1_SCK", 134 PB4 (io) "PB4/NJTRST/SPI3_MISO/TIM3_CH1/SPI1_MISO", 135 PB5 (io) "PB5/I2C1_SMBA/SPI3_MOSI/I2S3_SD/TIM3_CH2/SPI1_MOSI", 136 PB6 (io) "PB6/I2C1_SCL/TIM4_CH1/USART1_TX", 137 PB7 (io) "PB7/I2C1_SDA/FSMC_NADV/TIM4_CH2/USART1_RX", 139 PB8 (io) "PB8/TIM4_CH3/SDIO_D4/I2C1_SCL/CAN_RX", 140 PB9 (io) "PB9/TIM4_CH4/SDIO_D5/I2C1_SDA/CAN_TX"
part B pins: 1 PE2 (io) "PE2/TRACECK/FSMC_A23", 2 PE3 (io) "PE3/TRACED0/FSMC_A19", 3 PE4 (io) "PE4/TRACED1/FSMC_A20", 4 PE5 (io) "PE5/TRACED2/FSMC_A21", 5 PE6 (io) "PE6/TRACED3/FSMC_A22", 10 PF0 (io) "PF0/FSMC_A0", 11 PF1 (io) "PF1/FSMC_A1", 12 PF2 (io) "PF2/FSMC_A2", 13 PF3 (io) "PF3/FSMC_A3", 14 PF4 (io) "PF4/FSMC_A4", 15 PF5 (io) "PF5/FSMC_A5", 18 PF6 (io) "PF6/ADC3_IN4/FSMC_NIORD", 19 PF7 (io) "PF7/ADC3_IN5/FSMC_NREG", 20 PF8 (io) "PF8/ADC3_IN6/FSMC_NIOWR", 21 PF9 (io) "PF9/ADC3_IN7/FSMC_CD", 22 PF10 (io) "PF10/ADC3_IN8/FSMC_INTR", 23 OSC_IN (in), 24 OSC_OUT, 25 NRST (io), 49 PF11 (io) "PF11/FSMC_NIOS16", 50 PF12 (io) "PF12/FSMC_A6", 53 PF13 (io) "PF13/FSMC_A7", 54 PF14 (io) "PF14/FSMC_A8", 55 PF15 (io) "PF15/FSMC_A9", 56 PG0 (io) "PG0/FSMC_A10", 57 PG1 (io) "PG1/FSMC_A11", 58 PE7 (io) "PE7/FSMC_D4/TIM1_ETR", 59 PE8 (io) "PE8/FSMC_D5/TIM1_CH1N", 60 PE9 (io) "PE9/FSMC_D6/TIM1_CH1", 63 PE10 (io) "PE10/FSMC_D7/TIM1_CH2N", 64 PE11 (io) "PE11/FSMC_D8/TIM1_CH2", 65 PE12 (io) "PE12/FSMC_D9/TIM1_CH3N", 66 PE13 (io) "PE13/FSMC_D10/TIM1_CH3", 67 PE14 (io) "PE14/FSMC_D11/TIM1_CH4", 68 PE15 (io) "PE15/FSMC_D12/TIM1_BKIN", 87 PG2 (io) "PG2/FSMC_A12", 88 PG3 (io) "PG3/FSMC_A13", 89 PG4 (io) "PG4/FSMC_A14", 90 PG5 (io) "PG5/FSMC_A15", 91 PG6 (io) "PG6/FSMC_INT2", 92 PG7 (io) "PG7/FSMC_INT3", 93 PG8 (io), 106 NC, 124 PG9 (io) "PG9/FSMC_NE2/FSMC_NCE3", 125 PG10 (io) "PG10/FSMC_NCE4_1/FSMC_NE3", 126 PG11 (io) "PG11/FSMC_NCE4_2", 127 PG12 (io) "PG12/FSMC_NE4", 128 PG13 (io) "PG13/FSMC_A24", 129 PG14 (io) "PG14/FSMC_A25", 132 PG15 (io), 138 BOOT0 (in), 141 PE0 (io) "PE0/TIM4_ETR/FSMC_NBL0", 142 PE1 (io) "PE1/FSMC_NBL1"
part C pins: 6 VBAT (power), 16 VSS_5 (power), 17 VDD_5 (power), 30 VSSA (power), 31 VREF- (power), 32 VREF+ (power), 33 VDDA (power), 38 VSS_4 (power), 39 VDD_4 (power), 51 VSS_6 (power), 52 VDD_6 (power), 61 VSS_7 (power), 62 VDD_7 (power), 71 VSS_1 (power), 72 VDD_1 (power), 83 VSS_8 (power), 84 VDD_8 (power), 94 VSS_9 (power), 95 VDD_9 (power), 107 VSS_2 (power), 108 VDD_2 (power), 120 VSS_10 (power), 121 VDD_10 (power), 130 VSS_11 (power), 131 VDD_11 (power), 143 VSS_3 (power), 144 VDD_3 (power)